# EAGLE library part LM5176 (library lib_ysk)
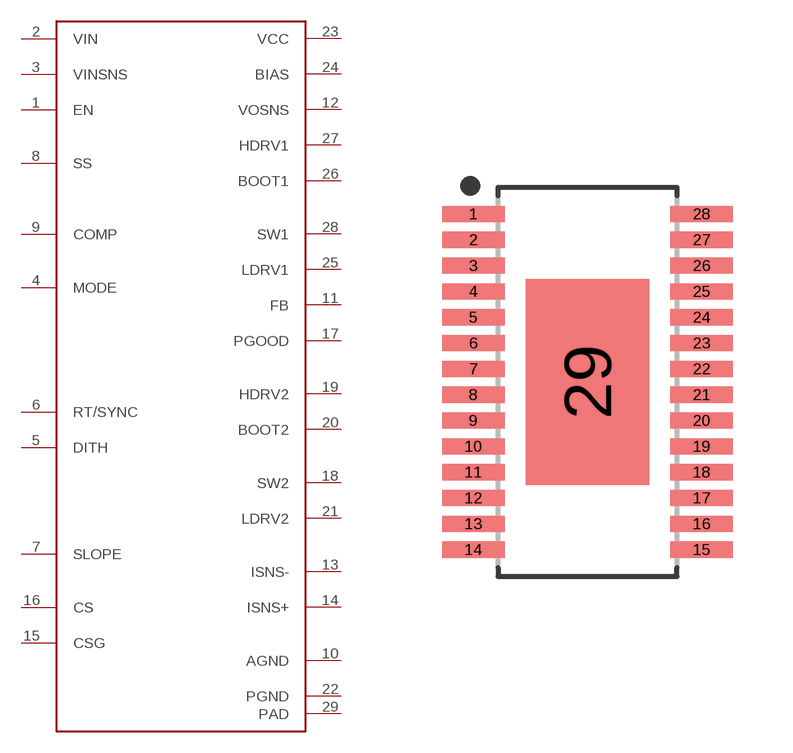
[diagram p6: symbol with the pads of SOP65P640X120-29T310X558N; footprint SOP65P640X120-29T310X558N]

Designator prefix -

## LM5176PWP  [SOP65P640X120-29T310X558N]
1  EN
2  VIN
3  VINSNS
4  MODE
5  DITH
6  RT/SYNC
7  SLOPE  in
8  SS
9  COMP
10  AGND  pas
11  FB  in
12  VOSNS
13  ISNS-
14  ISNS+
15  CSG
16  CS
17  PGOOD
18  SW2
19  HDRV2
20  BOOT2
21  LDRV2
22  PGND
23  VCC
24  BIAS
25  LDRV1
26  BOOT1
27  HDRV1
28  SW1
29  PAD

## Footprint SOP65P640X120-29T310X558N (pad centres in mm)
28-SOP, 0.65 mm pitch, 6.40 mm span, 9.70 X 4.40 X 1.20 mm body, 5.58 X 3.10 mm thermal pad 28-pin SOP package with 0.65 mm pitch, 6.40 mm span with body size 9.70 X 4.40 X 1.20 mm and thermal pad size 5.58 X 3.10 mm
smd 1.572 x 0.407: 1 -2.872,4.225; 2 -2.872,3.575; 3 -2.872,2.925; 4 -2.872,2.275; 5 -2.872,1.625; 6 -2.872,0.975; 7 -2.872,0.325; 8 -2.872,-0.325; 9 -2.872,-0.975; 10 -2.872,-1.625; 11 -2.872,-2.275; 12 -2.872,-2.925; 13 -2.872,-3.575; 14 -2.872,-4.225; 15 2.872,-4.225; 16 2.872,-3.575; 17 2.872,-2.925; 18 2.872,-2.275; 19 2.872,-1.625; 20 2.872,-0.975; 21 2.872,-0.325; 22 2.872,0.325; 23 2.872,0.975; 24 2.872,1.625; 25 2.872,2.275; 26 2.872,2.925; 27 2.872,3.575; 28 2.872,4.225
smd 3.1 x 5.18: 29 0,0